# Altium schematic symbol library MC100EL1648DG.SchLib: 1 symbol
Pins are listed as number, name and electrical type; pins without a type are passive.

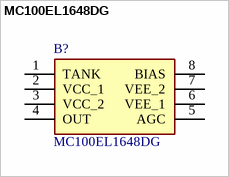
[diagram p0: symbol MC100EL1648DG]

## MC100EL1648DG
designator B?
Manufacturer_Name: onsemi; Geometry.Height: 1.75mm; Manufacturer_Part_Number: MC100EL1648DG; Mouser Part Number: 863-MC100EL1648DG; Mouser Price/Stock: https://www.mouser.co.uk/ProductDetail/onsemi/MC100EL1648DG?qs=3JMERSakebqE0DRlvq1XhA%3D%3D; Arrow Part Number: MC100EL1648DG; Arrow Price/Stock: https://www.arrow.com/en/products/mc100el1648dg/on-semiconductor; Description: *; Datasheet Link: http://www.onsemi.com/pub/Collateral/MC100EL1648-D.PDF
footprint SOIC127P600X175-8N
pins: 1 TANK, 2 VCC_1 (power), 3 VCC_2 (power), 4 OUT, 5 AGC, 6 VEE_1, 7 VEE_2, 8 BIAS